# EAGLE library part MAX31865-TQFN (library MAX31865)
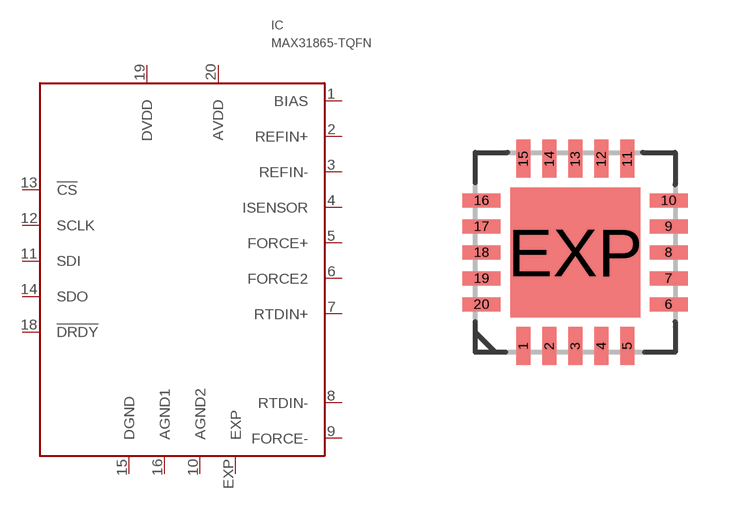
[diagram p0: symbol with the pads of TQFN-20EP; footprint TQFN-20EP]

Designator prefix IC

## MAX31865-TQFNTQFN  [TQFN-20EP]
1  BIAS  pas
2  REFIN+  pas
3  REFIN-  pas
4  ISENSOR  pas
5  FORCE+  pas
6  FORCE2  pas
7  RTDIN+  pas
8  RTDIN-  pas
9  FORCE-  pas
10  AGND2  pas
11  SDI  pas
12  SCLK  pas
13  !CS  pas
14  SDO  pas
15  DGND  pas
16  AGND1  pas
18  !DRDY  pas
19  DVDD  pas
20  AVDD  pas
EXP  EXP  pas

## Footprint TQFN-20EP (pad centres in mm)
smd 0.35 x 0.95: 1 -1.3,-2.34; 2 -0.65,-2.34; 3 0,-2.34; 4 0.65,-2.34; 5 1.3,-2.34; 11 1.3,2.34; 12 0.65,2.34; 13 0,2.34; 14 -0.65,2.34; 15 -1.3,2.34
smd 0.95 x 0.35: 6 2.34,-1.3; 7 2.34,-0.65; 8 2.34,0; 9 2.34,0.65; 10 2.34,1.3; 16 -2.34,1.3; 17 -2.34,0.65; 18 -2.34,0; 19 -2.34,-0.65; 20 -2.34,-1.3
smd 3.25 x 3.25: EXP 0,0